# EAGLE library part GMSTBA10 (library con-phoenix-762)
PHOENIX
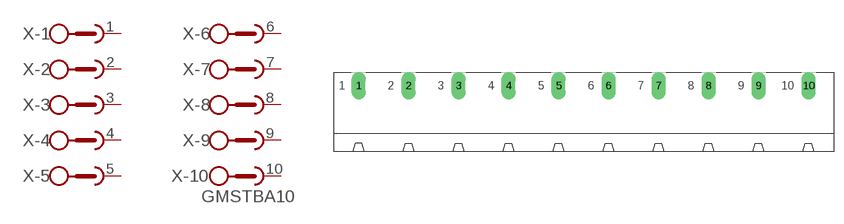
[diagram p3: symbol with the pads of GMSTBA10; footprint GMSTBA10]

Designator prefix X; gates -1=SKB -2=SKB -3=SKB -4=SKB -5=SKB -6=SKB -7=SKB -8=SKB -9=SKB -10=SKBV

## GMSTBA10 (MF: FARNELL; MPN: 1757323; OC_FARNELL: 3705249; OC_NEWARK: 71C4168)  [GMSTBA10]
1  -1:1  pas
2  -2:1  pas
3  -3:1  pas
4  -4:1  pas
5  -5:1  pas
6  -6:1  pas
7  -7:1  pas
8  -8:1  pas
9  -9:1  pas
10  -10:1  pas

## Footprint GMSTBA10 (pad centres in mm)
PHOENIX
drill 1.397 long: 1 -34.29,5.08; 2 -26.67,5.08; 3 -19.05,5.08; 4 -11.43,5.08; 5 -3.81,5.08; 6 3.81,5.08; 7 11.43,5.08; 8 19.05,5.08; 9 26.67,5.08; 10 34.29,5.08